# EAGLE library part MSP430FR6989 (library MSP430FR6989_EAGLE_LIB)
MSP430FR6989 Texas Instruments 100LQFP
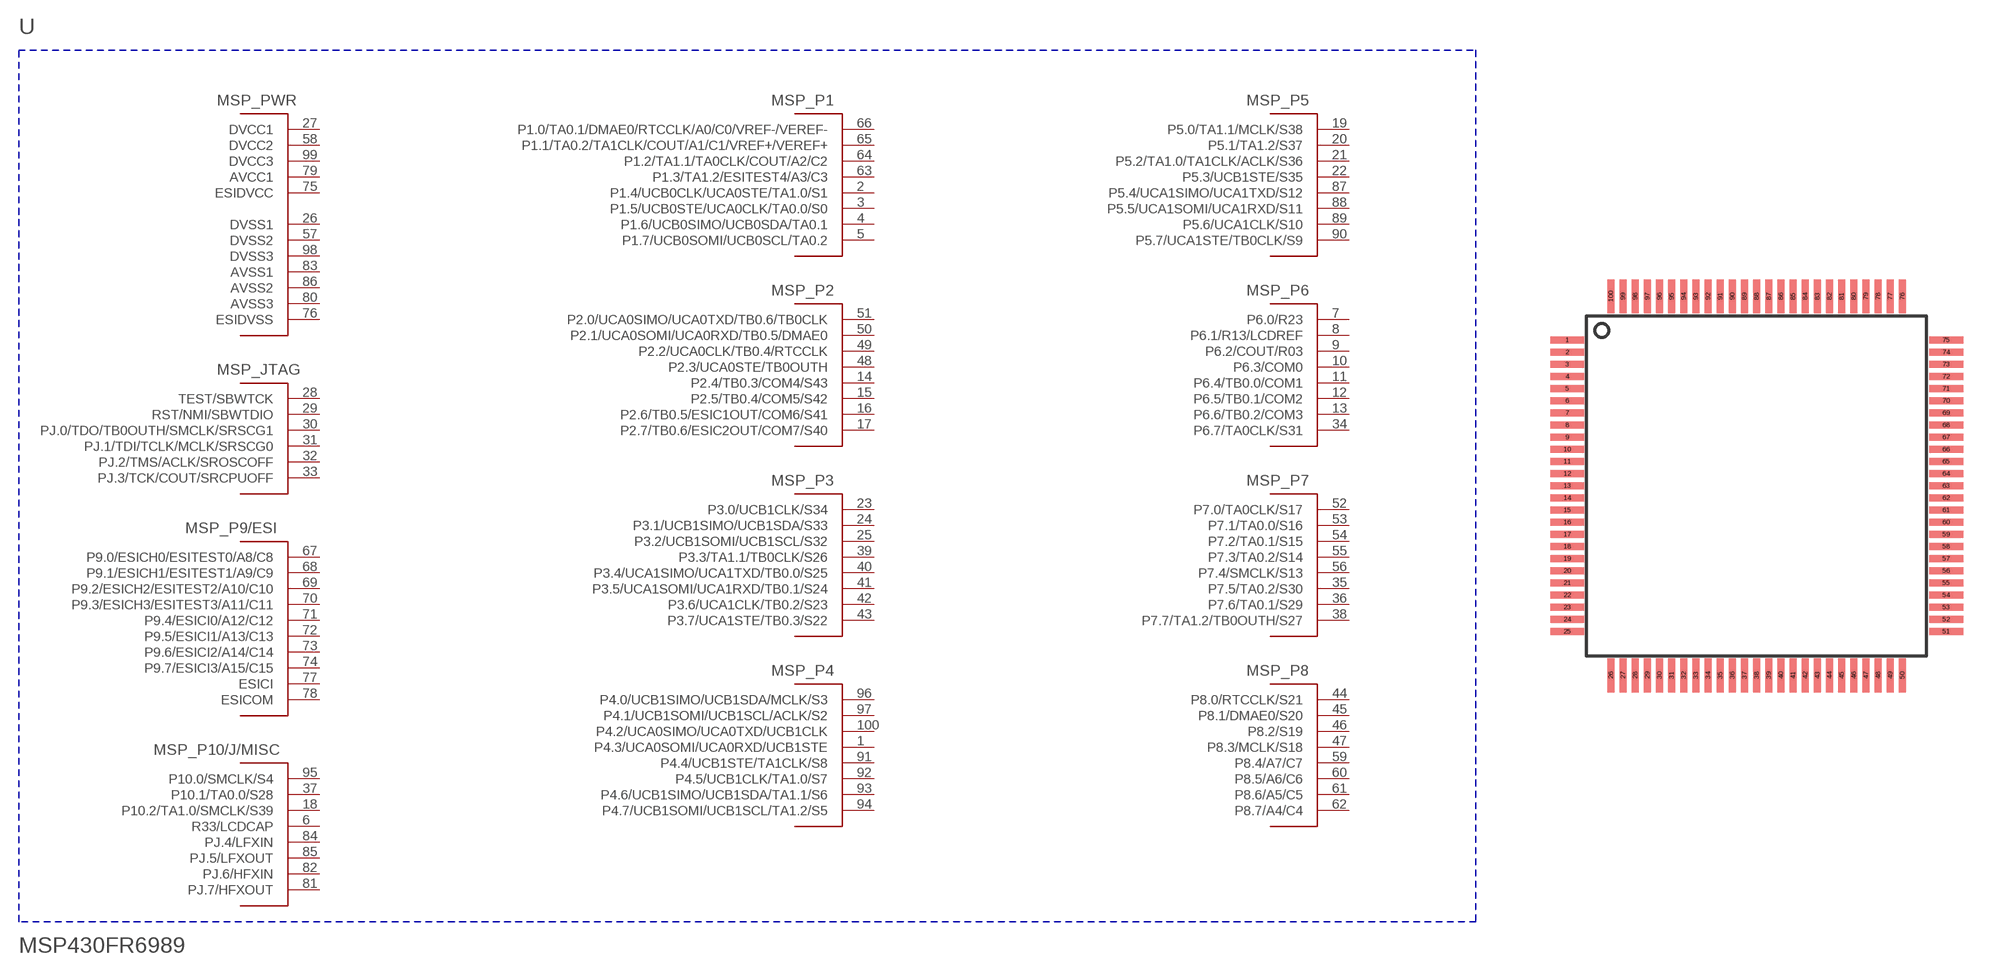
[diagram p0: symbol with the pads of PZ100; footprint PZ100]

Designator prefix -

## MSP430FR6989  [PZ100]
1  P4.3/UCA0SOMI/UCA0RXD/UCB1STE
2  P1.4/UCB0CLK/UCA0STE/TA1.0/S1
3  P1.5/UCB0STE/UCA0CLK/TA0.0/S0
4  P1.6/UCB0SIMO/UCB0SDA/TA0.1
5  P1.7/UCB0SOMI/UCB0SCL/TA0.2
6  R33/LCDCAP
7  P6.0/R23
8  P6.1/R13/LCDREF
9  P6.2/COUT/R03
10  P6.3/COM0
11  P6.4/TB0.0/COM1
12  P6.5/TB0.1/COM2
13  P6.6/TB0.2/COM3
14  P2.4/TB0.3/COM4/S43
15  P2.5/TB0.4/COM5/S42
16  P2.6/TB0.5/ESIC1OUT/COM6/S41
17  P2.7/TB0.6/ESIC2OUT/COM7/S40
18  P10.2/TA1.0/SMCLK/S39
19  P5.0/TA1.1/MCLK/S38
20  P5.1/TA1.2/S37
21  P5.2/TA1.0/TA1CLK/ACLK/S36
22  P5.3/UCB1STE/S35
23  P3.0/UCB1CLK/S34
24  P3.1/UCB1SIMO/UCB1SDA/S33
25  P3.2/UCB1SOMI/UCB1SCL/S32
26  DVSS1
27  DVCC1
28  TEST/SBWTCK
29  RST/NMI/SBWTDIO
30  PJ.0/TDO/TB0OUTH/SMCLK/SRSCG1
31  PJ.1/TDI/TCLK/MCLK/SRSCG0
32  PJ.2/TMS/ACLK/SROSCOFF
33  PJ.3/TCK/COUT/SRCPUOFF
34  P6.7/TA0CLK/S31
35  P7.5/TA0.2/S30
36  P7.6/TA0.1/S29
37  P10.1/TA0.0/S28
38  P7.7/TA1.2/TB0OUTH/S27
39  P3.3/TA1.1/TB0CLK/S26
40  P3.4/UCA1SIMO/UCA1TXD/TB0.0/S25
41  P3.5/UCA1SOMI/UCA1RXD/TB0.1/S24
42  P3.6/UCA1CLK/TB0.2/S23
43  P3.7/UCA1STE/TB0.3/S22
44  P8.0/RTCCLK/S21
45  P8.1/DMAE0/S20
46  P8.2/S19
47  P8.3/MCLK/S18
48  P2.3/UCA0STE/TB0OUTH
49  P2.2/UCA0CLK/TB0.4/RTCCLK
50  P2.1/UCA0SOMI/UCA0RXD/TB0.5/DMAE0
51  P2.0/UCA0SIMO/UCA0TXD/TB0.6/TB0CLK
52  P7.0/TA0CLK/S17
53  P7.1/TA0.0/S16
54  P7.2/TA0.1/S15
55  P7.3/TA0.2/S14
56  P7.4/SMCLK/S13
57  DVSS2
58  DVCC2
59  P8.4/A7/C7
60  P8.5/A6/C6
61  P8.6/A5/C5
62  P8.7/A4/C4
63  P1.3/TA1.2/ESITEST4/A3/C3
64  P1.2/TA1.1/TA0CLK/COUT/A2/C2
65  P1.1/TA0.2/TA1CLK/COUT/A1/C1/VREF+/VEREF+
66  P1.0/TA0.1/DMAE0/RTCCLK/A0/C0/VREF-/VEREF-
67  P9.0/ESICH0/ESITEST0/A8/C8
68  P9.1/ESICH1/ESITEST1/A9/C9
69  P9.2/ESICH2/ESITEST2/A10/C10
70  P9.3/ESICH3/ESITEST3/A11/C11
71  P9.4/ESICI0/A12/C12
72  P9.5/ESICI1/A13/C13
73  P9.6/ESICI2/A14/C14
74  P9.7/ESICI3/A15/C15
75  ESIDVCC
76  ESIDVSS
77  ESICI
78  ESICOM
79  AVCC1
80  AVSS3
81  PJ.7/HFXOUT
82  PJ.6/HFXIN
83  AVSS1
84  PJ.4/LFXIN
85  PJ.5/LFXOUT
86  AVSS2
87  P5.4/UCA1SIMO/UCA1TXD/S12
88  P5.5/UCA1SOMI/UCA1RXD/S11
89  P5.6/UCA1CLK/S10
90  P5.7/UCA1STE/TB0CLK/S9
91  P4.4/UCB1STE/TA1CLK/S8
92  P4.5/UCB1CLK/TA1.0/S7
93  P4.6/UCB1SIMO/UCB1SDA/TA1.1/S6
94  P4.7/UCB1SOMI/UCB1SCL/TA1.2/S5
95  P10.0/SMCLK/S4
96  P4.0/UCB1SIMO/UCB1SDA/MCLK/S3
97  P4.1/UCB1SOMI/UCB1SCL/ACLK/S2
98  DVSS3
99  DVCC3
100  P4.2/UCA0SIMO/UCA0TXD/UCB1CLK

## Footprint PZ100 (pad centres in mm)
*** TI: PZ *** JEDEC: S-PQFP-G100 *** 100 PINS ***
smd 1.4 x 0.3: 1 -7.8,6; 2 -7.8,5.5; 3 -7.8,5; 4 -7.8,4.5; 5 -7.8,4; 6 -7.8,3.5; 7 -7.8,3; 8 -7.8,2.5; 9 -7.8,2; 10 -7.8,1.5; 11 -7.8,1; 12 -7.8,0.5; 13 -7.8,0; 14 -7.8,-0.5; 15 -7.8,-1; 16 -7.8,-1.5; 17 -7.8,-2; 18 -7.8,-2.5; 19 -7.8,-3; 20 -7.8,-3.5; 21 -7.8,-4; 22 -7.8,-4.5; 23 -7.8,-5; 24 -7.8,-5.5; 25 -7.8,-6; 51 7.8,-6; 52 7.8,-5.5; 53 7.8,-5; 54 7.8,-4.5; 55 7.8,-4; 56 7.8,-3.5; 57 7.8,-3; 58 7.8,-2.5; 59 7.8,-2; 60 7.8,-1.5; 61 7.8,-1; 62 7.8,-0.5; 63 7.8,0; 64 7.8,0.5; 65 7.8,1; 66 7.8,1.5; 67 7.8,2; 68 7.8,2.5; 69 7.8,3; 70 7.8,3.5; 71 7.8,4; 72 7.8,4.5; 73 7.8,5; 74 7.8,5.5; 75 7.8,6
smd 0.3 x 1.4: 26 -6,-7.8; 27 -5.5,-7.8; 28 -5,-7.8; 29 -4.5,-7.8; 30 -4,-7.8; 31 -3.5,-7.8; 32 -3,-7.8; 33 -2.5,-7.8; 34 -2,-7.8; 35 -1.5,-7.8; 36 -1,-7.8; 37 -0.5,-7.8; 38 0,-7.8; 39 0.5,-7.8; 40 1,-7.8; 41 1.5,-7.8; 42 2,-7.8; 43 2.5,-7.8; 44 3,-7.8; 45 3.5,-7.8; 46 4,-7.8; 47 4.5,-7.8; 48 5,-7.8; 49 5.5,-7.8; 50 6,-7.8; 76 6,7.8; 77 5.5,7.8; 78 5,7.8; 79 4.5,7.8; 80 4,7.8; 81 3.5,7.8; 82 3,7.8; 83 2.5,7.8; 84 2,7.8; 85 1.5,7.8; 86 1,7.8; 87 0.5,7.8; 88 0,7.8; 89 -0.5,7.8; 90 -1,7.8; 91 -1.5,7.8; 92 -2,7.8; 93 -2.5,7.8; 94 -3,7.8; 95 -3.5,7.8; 96 -4,7.8; 97 -4.5,7.8; 98 -5,7.8; 99 -5.5,7.8; 100 -6,7.8